# Altium schematic symbol library Schlib1.SchLib: 2 symbols
Pins are listed as number, name and electrical type; pins without a type are passive.

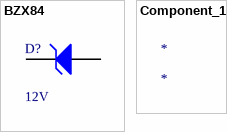
[diagram p0: symbols BZX84 to Component_1]

## BZX84
designator D?, comment 12V
DIODE TVS 12V Unidir; Manufacturer: Littelfuse Inc.; Value: TVS DIODE 12V 19.9V DO214AC; Order Number: SMAJ12A; Package: DO-214AC, SMA; Cost: 0,48
simulation model DIODE (Diode)
signal-integrity model Diode
footprint RR_SMA (SMA(DO-214AC))
pins: 1 A, 3 A

## Component_1
designator *